# EAGLE library part FT231XS (library graftel-internal-ic)
FT231XS QFN20 Version http://cdn.sparkfun.com/datasheets/Components/General%20IC/DS_FT231X.pdf
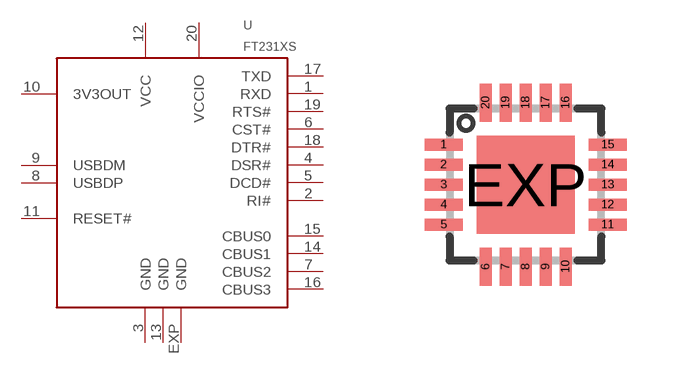
[diagram p4: symbol with the pads of QFN20; footprint QFN20]

Designator prefix U

## FT231XS  [QFN20]
1  RXD
2  RI#
3  GND
4  DSR#
5  DCD#
6  CST#
7  CBUS2
8  USBDP
9  USBDM
10  3V3OUT
11  RESET#
12  VCC
13  GND
14  CBUS1
15  CBUS0
16  CBUS3
17  TXD
18  DTR#
19  RTS#
20  VCCIO
EXP  GND

## Footprint QFN20 (pad centres in mm)
ES Package, 20-Contact QFN with Exposed Thermal Pad Data sheet <http://www.allegromicro.com/en/Products/Part_Numbers/3906/3906.pdf>
smd 0.95 x 0.3: 1 -2.05,1; 2 -2.05,0.5; 3 -2.05,0; 4 -2.05,-0.5; 5 -2.05,-1; 11 2.05,-1; 12 2.05,-0.5; 13 2.05,0; 14 2.05,0.5; 15 2.05,1
smd 0.3 x 0.95: 6 -1,-2.05; 7 -0.5,-2.05; 8 0,-2.05; 9 0.5,-2.05; 10 1,-2.05; 16 1,2.05; 17 0.5,2.05; 18 0,2.05; 19 -0.5,2.05; 20 -1,2.05
smd 2.45 x 2.45: EXP 0,0